# Altium footprint library BLE-Control.PcbLib: 56 footprints (part 3 of 4)
Each footprint in its own frame and in the unit in brackets; x right, y up, seen from the top. Pads: shape width x height; smd on the part's side, far side on the other; paste and mask are expansions set on the pad; w line width, h text height; cw(c..) or ccw(c..) is an arc to the next point about the centre after c.
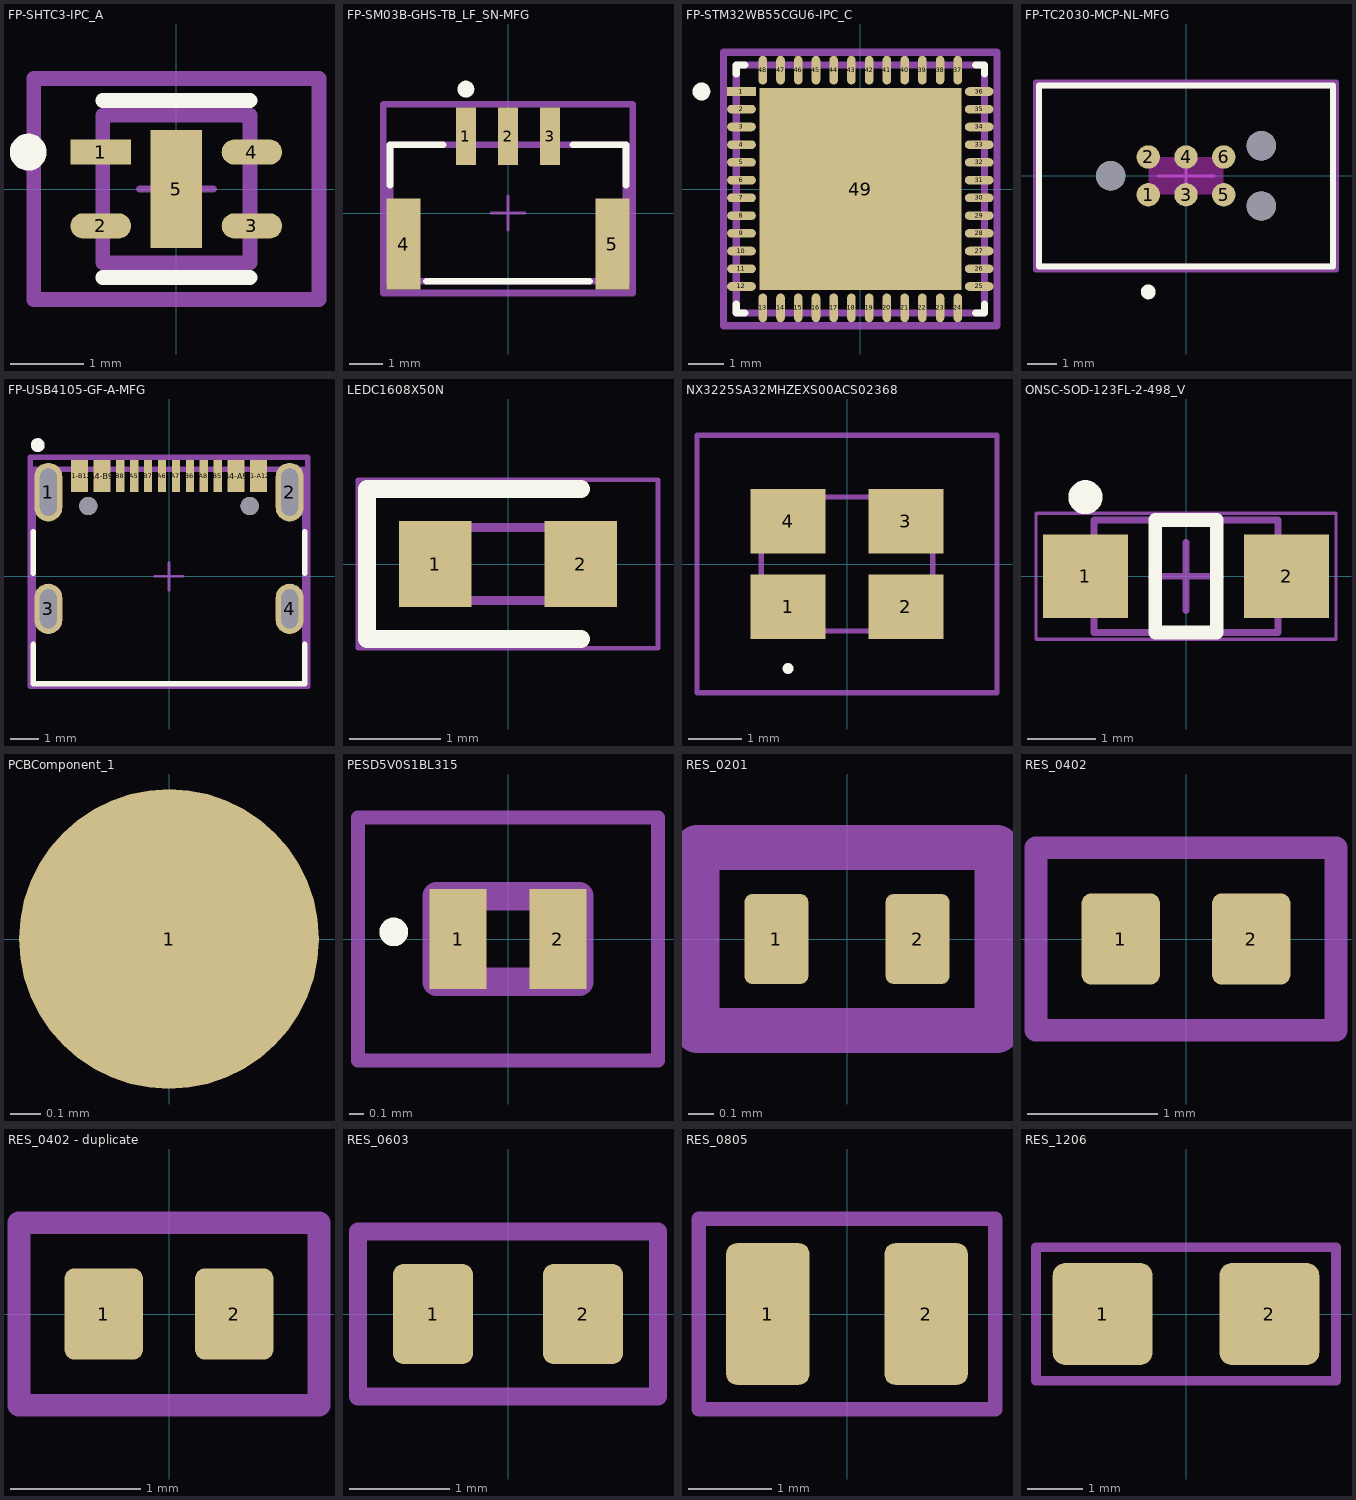
[diagram p2: the footprints below, top view; thin cyan lines are the x and y axes]

## FP-SHTC3-IPC_A [mm]
pads (5):
  rect 0.821x0.341 smd paste+0 mask+0: 1(-1.025,0.5)
  rrect100% 0.821x0.341 smd paste+0 mask+0: 2(-1.025,-0.5) 3(1.025,-0.5) 4(1.025,0.5)
  rect 0.7x1.6 smd paste-1000 mask+0: 5(0,0)
Top Overlay:
  circle w0.25: c-2.01,0.5 r0.125
  lines w0.2: -1,-1.2 1,-1.2 ; -1,1.2 1,1.2
Top Paste:
  rectangle: -0.178,-0.628 0.178,0.628
Top Assembly:
  lines w0.2: -1.935,-1.5 1.935,-1.5 1.935,1.5 -1.935,1.5 -1.935,-1.5
  text ".Designator" at 0,-0.001 h1
Top 3D Body:
  lines w0.2: -1,-1 1,-1 1,1 -1,1 -1,-1
Top Courtyard:
  lines w0.2: -1.935,-1.5 1.935,-1.5 1.935,1.5 -1.935,1.5 -1.935,-1.5
Top Component Center:
  lines w0.1: -0.5,0 0.5,0 ; 0,-0.5 0,0.5
3D body "IC_Sensirion_SHTC3_eec.STEP": height 0.25, standoff 0, extent -1.935,-1.5 1.935,1.5

## FP-SM03B-GHS-TB_LF_SN-MFG [mm]
pads (5):
  rect 0.6x1.7 smd paste+0 mask+0: 1(-1.25,2.275) 2(0,2.275) 3(1.25,2.275)
  rect 1x2.7 smd paste+0 mask+0: 4(-3.1,-0.925) 5(3.1,-0.925)
Top Overlay:
  circle w0.25: c-1.25,3.675 r0.125
  lines w0.2: -3.5,0.825 -3.5,2.025 -1.925,2.025 ; -2.425,-2.025 2.425,-2.025 ; 1.925,2.025 3.5,2.025 3.5,0.825
Top Assembly:
  lines w0.2: -3.7,-2.375 3.7,-2.375 3.7,3.225 -3.7,3.225 -3.7,-2.375
  text ".Designator" at 0,0.613 h1
Top 3D Body:
  lines w0.2: -3.5,-2.025 3.5,-2.025 3.5,2.025 -3.5,2.025 -3.5,-2.025
Top Courtyard:
  lines w0.2: -3.7,-2.375 3.7,-2.375 3.7,3.225 -3.7,3.225 -3.7,-2.375
Top Component Center:
  lines w0.1: -0.5,0 0.5,0 ; 0,-0.5 0,0.5
3D body "Conn_JST_SM03B-GHS-TB_LF_SN_eec.STEP": height 0.25, standoff 0, extent -3.7,-2.375 3.7,3.225

## FP-STM32WB55CGU6-IPC_C [mm]
pads (49):
  rect 0.81x0.242 smd paste+0 mask+0: 1(-3.351,2.75)
  rrect100% 0.81x0.242 smd paste+0 mask+0: 2(-3.351,2.25) 3(-3.351,1.75) 4(-3.351,1.25) 5(-3.351,0.75) 6(-3.351,0.25) 7(-3.351,-0.25) 8(-3.351,-0.75) 9(-3.351,-1.25) 10(-3.351,-1.75) 11(-3.351,-2.25) 12(-3.351,-2.75) 25(3.351,-2.75) 26(3.351,-2.25) 27(3.351,-1.75) 28(3.351,-1.25) 29(3.351,-0.75) 30(3.351,-0.25) 31(3.351,0.25) 32(3.351,0.75) 33(3.351,1.25) 34(3.351,1.75) 35(3.351,2.25) 36(3.351,2.75)
  rrect100% 0.242x0.81 smd paste+0 mask+0: 13(-2.75,-3.351) 14(-2.25,-3.351) 15(-1.75,-3.351) 16(-1.25,-3.351) 17(-0.75,-3.351) 18(-0.25,-3.351) 19(0.25,-3.351) 20(0.75,-3.351) 21(1.25,-3.351) 22(1.75,-3.351) 23(2.25,-3.351) 24(2.75,-3.351) 37(2.75,3.351) 38(2.25,3.351) 39(1.75,3.351) 40(1.25,3.351) 41(0.75,3.351) 42(0.25,3.351) 43(-0.25,3.351) 44(-0.75,3.351) 45(-1.25,3.351) 46(-1.75,3.351) 47(-2.25,3.351) 48(-2.75,3.351)
  rect 5.7x5.7 smd paste-1000 mask+0: 49(0,0)
Top Overlay:
  circle w0.25: c-4.481,2.75 r0.125
  lines w0.2: -3.5,-3.25 -3.5,-3.5 -3.25,-3.5 ; -3.5,3.25 -3.5,3.5 -3.25,3.5 ; 3.25,-3.5 3.5,-3.5 3.5,-3.25 ; 3.25,3.5 3.5,3.5 3.5,3.25
Top Paste:
  rectangle: 0.349,-2.152 2.152,-0.349
  rectangle: -2.152,-2.152 -0.349,-0.349
  rectangle: 0.349,0.349 2.152,2.152
  rectangle: -2.152,0.349 -0.349,2.152
Top Assembly:
  lines w0.2: -3.856,-3.856 -3.856,3.856 3.856,3.856 3.856,-3.856 -3.856,-3.856
  text ".Designator" at 0,-0.001 h1
Top 3D Body:
  lines w0.2: -3.5,-3.5 -3.5,3.5 3.5,3.5 3.5,-3.5 -3.5,-3.5
Top Courtyard:
  lines w0.2: -3.856,-3.856 -3.856,3.856 3.856,3.856 3.856,-3.856 -3.856,-3.856
Top Component Center:
  lines w0.1: -0.5,0 0.5,0 ; 0,-0.5 0,0.5
3D body "IC_STMicroelectronics_STM32WB55CGU6_eec.STEP": height 0.25, standoff 0, extent -3.856,-3.856 3.856,3.856

## FP-TC2030-MCP-NL-MFG [mil]
pads (9):
  round 30.98 smd paste-39370.1 mask+0: 1(-50,-25) 2(-50,25) 3(0,-25) 4(0,25) 5(50,-25) 6(50,25)
  round 39.02 hole 39.02 unplated paste-99999 mask+0: ""(-100,0) ""(100,-40) ""(100,40)
Top Overlay:
  circle w9.84: c-50,-153.94 r4.92
  lines w7.87: -195,-120 195,-120 195,120 -195,120 -195,-120
Keep-Out Layer:
  rectangle: -50,-25 50,25
Top Assembly:
  lines w7.87: -198.94,-123.94 198.94,-123.94 198.94,123.94 -198.94,123.94 -198.94,-123.94
  text ".Designator" at 0,-0.02 h39.37
Top 3D Body:
  lines w7.87: -195,-120 195,-120 195,120 -195,120 -195,-120
Top Courtyard:
  lines w7.87: -198.94,-123.94 198.94,-123.94 198.94,123.94 -198.94,123.94 -198.94,-123.94
Top Component Center:
  lines w3.94: -37.18,0 37.18,0 ; 0,-37.18 0,37.18
3D body "Conn_Tag-Connect_TC2030-MCP-NL_eec.STEP": height 10, standoff 0, extent -198.94,-123.94 198.94,123.94

## FP-USB4105-GF-A-MFG [mm]
pads (18):
  rrect100% 1x2.1 hole 1.7 slot 0.6 at 0 deg paste-2539.97 mask+0: 1(-4.32,3.015) 2(4.32,3.015)
  rrect100% 1x1.8 hole 1.4 slot 0.6 at 0 deg paste-2539.97 mask+0: 3(-4.32,-1.165) 4(4.32,-1.165)
  rect 0.6x1.15 smd paste+0 mask+0: A1-B12(-3.2,3.59) A4-B9(-2.4,3.59) B1-A12(3.2,3.59) B4-A9(2.4,3.59)
  rect 0.3x1.15 smd paste+0 mask+0: A5(-1.25,3.59) A6(-0.25,3.59) A7(0.25,3.59) A8(1.25,3.59) B5(1.75,3.59) B6(0.75,3.59) B7(-0.75,3.59) B8(-1.75,3.59)
  round 0.65 hole 0.65 unplated paste-2539.97 mask+0: ""(-2.89,2.515) ""(2.89,2.515)
Top Overlay:
  circle w0.25: c-4.699,4.699 r0.125
  lines w0.2: -4.865,-2.44 -4.865,-3.84 4.865,-3.84 4.865,-2.44 ; -4.865,0.11 -4.865,1.59 ; 4.865,0.11 4.865,1.59
Top Assembly:
  lines w0.2: -4.965,-3.94 -4.965,4.265 4.965,4.265 4.965,-3.94 -4.965,-3.94
  text ".Designator" at 0,0.35 h1
Top 3D Body:
  lines w0.2: -4.865,-3.84 -4.865,3.84 4.865,3.84 4.865,-3.84 -4.865,-3.84
Top Courtyard:
  lines w0.2: -4.965,-3.94 -4.965,4.265 4.965,4.265 4.965,-3.94 -4.965,-3.94
Top Component Center:
  lines w0.1: -0.5,0 0.5,0 ; 0,-0.5 0,0.5
3D body "Conn_GCT_USB4105-GF-A_eec.STEP": height 0.25, standoff 0, extent -4.965,-3.94 4.965,4.265

## LEDC1608X50N [mm]
pads (2):
  rect 0.8x0.95 smd: 1(-0.8,0) 2(0.8,0)
Top Overlay:
  lines w0.2: 0.8,-0.825 -1.55,-0.825 -1.55,0.825 0.8,0.825
Top 3D Body:
  lines w0.1: -0.8,0.133 -0.533,0.4 ; -0.8,-0.4 0.8,-0.4 0.8,0.4 -0.8,0.4 -0.8,-0.4
Top Courtyard:
  lines w0.05: -1.65,-0.925 1.65,-0.925 1.65,0.925 -1.65,0.925 -1.65,-0.925
3D body "19-217_GHC-YR1S2_3T.stp": height 0.42, standoff 0, extent -0.84,-0.4 0.8,0.4

## NX3225SA32MHZEXS00ACS02368 [mm]
pads (4):
  rect 1.4x1.2 smd: 1(-1.1,-0.8) 2(1.1,-0.8) 3(1.1,0.8) 4(-1.1,0.8)
Top Overlay:
  lines w0.1: -1.1,-2 cw(c-1.1,-1.95) -1.1,-1.9 cw(c-1.1,-1.95) -1.1,-2
Top 3D Body:
  lines w0.1: -1.6,-1.25 1.6,-1.25 1.6,1.25 -1.6,1.25 -1.6,-1.25
Top Courtyard:
  lines w0.1: -2.8,-2.4 2.8,-2.4 2.8,2.4 -2.8,2.4 -2.8,-2.4
3D body "NX3225SA-32MHZ-EXS00A-CS02368.stp": height 0.7, standoff 0, extent -1.68,-1.28 1.68,1.28

## ONSC-SOD-123FL-2-498_V [mm] "SOD, 2-Leads, Body 2.7x1.65mm"
height 0.98
pads (2):
  rect 1.25x1.22 smd: 1(-1.475,0) 2(1.475,0)
Top Overlay:
  circle w0.25: c-1.475,1.16 r0.125
  lines w0.2: -0.45,-0.825 -0.45,0.825 0.45,0.825 0.45,-0.825 -0.45,-0.825
Top 3D Body:
  lines w0.1: -1.35,-0.825 -1.35,0.825 1.35,0.825 1.35,-0.825 -1.35,-0.825
Top Courtyard:
  lines w0.05: -2.2,-0.925 2.2,-0.925 2.2,0.925 -2.2,0.925 -2.2,-0.925
  lines w0.1: -0.5,0 0.5,0 ; 0,-0.5 0,0.5
3D body: height 0.98, standoff 0, extent -1.35,-0.825 1.35,0.825

## PCBComponent_1 [mm]
pads (1):
  round 1 smd: 1(0,0)

## PESD5V0S1BL315 [mm]
pads (2):
  rect 0.4x0.7 smd: 1(-0.35,0) 2(0.35,0)
Top Overlay:
  lines w0.1: -0.8,0 cw(c-0.8,0.05) -0.8,0.1 cw(c-0.8,0.05) -0.8,0
Top 3D Body:
  lines w0.2: -0.5,-0.3 -0.5,0.3 0.5,0.3 0.5,-0.3 -0.5,-0.3
Top Courtyard:
  lines w0.1: -1.05,-0.85 -1.05,0.85 1.05,0.85 1.05,-0.85 -1.05,-0.85
3D body "PESD5V0S1UL,315.stp": height 0.47, standoff 0, extent -0.501,-0.302 0.499,0.298

## RES_0201 [mm]
pads (2):
  rrect25% 0.25x0.35 smd mask+0.05: 1(-0.275,0) 2(0.275,0)
Top 3D Body:
  lines w0.175: -0.584,-0.356 0.584,-0.356 0.584,0.356 -0.584,0.356 -0.584,-0.356
  text "'.Designator'" at -5.665,-0.417 h1
3D body "R0201.step": height 0.15, standoff 0, extent -0.3,-0.15 0.3,0.15

## RES_0402 [mm]
pads (2):
  rrect25% 0.6x0.7 smd: 1(-0.5,0) 2(0.5,0)
Top 3D Body:
  lines w0.175: -1.15,-0.7 -1.15,0.7 1.15,0.7 1.15,-0.7 -1.15,-0.7
  text "'.Designator'" at -5.665,-0.417 h1
3D body "R0402.step": height 0.3, standoff 0, extent -0.5,-0.25 0.5,0.25

## RES_0402 - duplicate [mm]
pads (2):
  rrect25% 0.6x0.7 smd: 1(-0.5,0) 2(0.5,0)
Top 3D Body:
  lines w0.175: -1.15,-0.7 1.15,-0.7 1.15,0.7 -1.15,0.7 -1.15,-0.7
  text "'.Designator'" at -5.665,-0.417 h1
3D body "R0402.step": height 0.3, standoff 0, extent -0.5,-0.25 0.5,0.25

## RES_0603 [mm]
pads (2):
  rrect25% 0.8x1 smd: 1(-0.75,0) 2(0.75,0)
Top 3D Body:
  lines w0.175: -1.5,-0.825 -1.5,0.825 1.5,0.825 1.5,-0.825 -1.5,-0.825
  text "'.Designator'" at -5.665,-0.417 h1
3D body "R0603.step": height 0.52, standoff 0.01, extent -0.8,-0.43 0.8,0.43

## RES_0805 [mm]
pads (2):
  rrect25% 1x1.7 smd: 1(-0.95,0) 2(0.95,0)
Top 3D Body:
  lines w0.175: -1.778,-1.143 1.778,-1.143 1.778,1.143 -1.778,1.143 -1.778,-1.143
  text "'.Designator'" at -5.665,-0.417 h1
3D body "R0805.step": height 0.47, standoff 0.01, extent -1,-0.63 1,0.63

## RES_1206 [mm]
pads (2):
  rrect25% 1.8x1.84 smd: 1(-1.5,0) 2(1.5,0)
Top 3D Body:
  lines w0.175: -2.7,-1.2 2.7,-1.2 2.7,1.2 -2.7,1.2 -2.7,-1.2
  text "'.Designator'" at -5.665,-0.417 h1
3D body "R1206.step": height 0.57, standoff 0.01, extent -1.6,-0.83 1.6,0.83